# Altium schematic symbol library Schlib.SchLib: 3 symbols
Pins are listed as number, name and electrical type; pins without a type are passive.

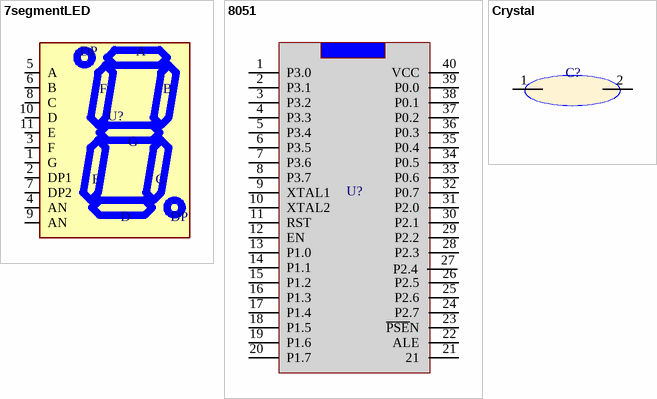
[diagram p0: symbols 7segmentLED to Crystal]

## 7segmentLED
designator U?
footprint Display
pins: 1 G, 2 DP1, 3 F, 4 AN, 5 A, 6 B, 7 DP2, 8 C, 9 AN, 10 D, 11 E
text: DP

## 8051
designator U?
footprint 8051
pins: 1 P3.0, 2 P3.1, 3 P3.2, 4 P3.3, 5 P3.4, 6 P3.5, 7 P3.6, 8 P3.7, 9 XTAL1, 10 XTAL2, 11 RST, 12 EN, 13 P1.0, 14 P1.1, 15 P1.2, 16 P1.3, 17 P1.4, 18 P1.5, 19 P1.6, 20 P1.7, 21, 22 ALE, 23 ~{PSE}N, 24 P2.7, 25 P2.6, 26 P2.5, 27 P2.4, 28 P2.3, 29 P2.2, 30 P2.1, 31 P2.0, 32 P0.7, 33 P0.6, 34 P0.5, 35 P0.4, 36 P0.3, 37 P0.2, 38 P0.1, 39 P0.0, 40 VCC

## Crystal
designator C?
footprint Crystal
pins: 1, 2